# Altium footprint library LEADERTECH_SMS-255F.PcbLib: 1 footprints
Each footprint in its own frame and in the unit in brackets; x right, y up, seen from the top. Pads: shape width x height; smd on the part's side, far side on the other; paste and mask are expansions set on the pad; w line width, h text height; cw(c..) or ccw(c..) is an arc to the next point about the centre after c.
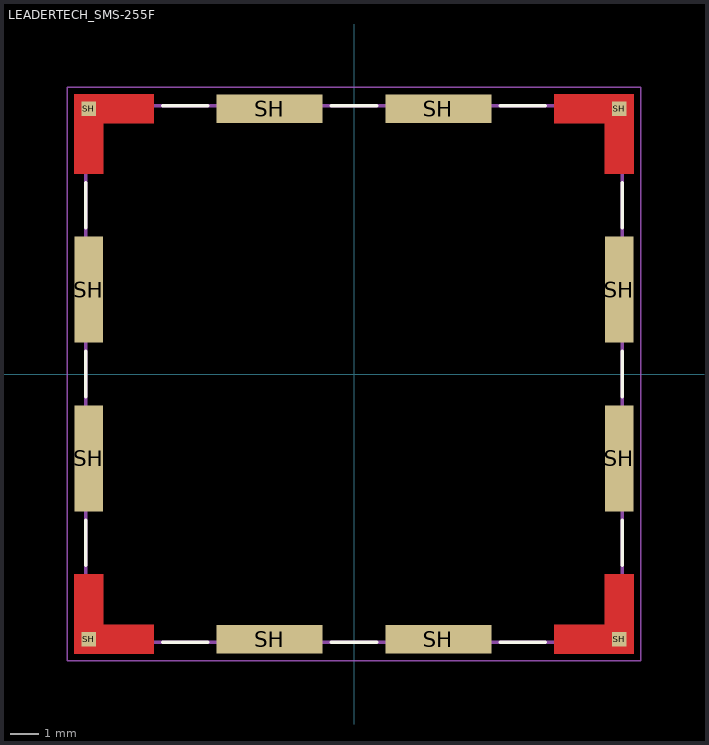
[diagram p0: the footprint, top view; thin cyan lines are the x and y axes]

## LEADERTECH_SMS-255F [mm]
height 5.08
pads (12):
  rect 0.5x0.5 smd paste-1 mask+0: SH(-9.425,-9.425) SH(-9.425,9.425) SH(9.425,-9.425) SH(9.425,9.425)
  rect 1.02x3.76 smd: SH(-9.425,-3) SH(-9.425,3) SH(9.425,-3) SH(9.425,3)
  rect 3.76x1.02 smd: SH(-3,-9.425) SH(-3,9.425) SH(3,-9.425) SH(3,9.425)
Top Layer:
  region: -7.115,8.915 -8.915,8.915 -8.915,7.115 -9.935,7.115 -9.935,9.935 -7.115,9.935
  region: 9.935,7.115 8.915,7.115 8.915,8.915 7.115,8.915 7.115,9.935 9.935,9.935
  region: 9.935,-9.935 7.115,-9.935 7.115,-8.915 8.915,-8.915 8.915,-7.115 9.935,-7.115
  region: -8.915,-8.915 -7.115,-8.915 -7.115,-9.935 -9.935,-9.935 -9.935,-7.115 -8.915,-7.115
Top Overlay:
  lines w0.127: -9.525,-6.795 -9.525,-5.2 ; -9.525,-0.8 -9.525,0.8 ; -9.525,5.2 -9.525,6.795 ; -6.795,-9.525 -5.2,-9.525 ; -6.795,9.525 -5.2,9.525 ; -0.8,-9.525 0.8,-9.525 ; -0.8,9.525 0.8,9.525 ; 5.2,-9.525 6.795,-9.525 ; 5.2,9.525 6.795,9.525 ; 9.525,-6.795 9.525,-5.2 ; 9.525,-0.8 9.525,0.8 ; 9.525,5.2 9.525,6.795
Top Paste:
  region: -7.115,8.915 -8.915,8.915 -8.915,7.115 -9.935,7.115 -9.935,9.935 -7.115,9.935
  region: 9.935,7.115 8.915,7.115 8.915,8.915 7.115,8.915 7.115,9.935 9.935,9.935
  region: 9.935,-9.935 7.115,-9.935 7.115,-8.915 8.915,-8.915 8.915,-7.115 9.935,-7.115
  region: -8.915,-8.915 -7.115,-8.915 -7.115,-9.935 -9.935,-9.935 -9.935,-7.115 -8.915,-7.115
Top Solder:
  region: -7.015,8.815 -8.815,8.815 -8.815,7.015 -10.035,7.015 -10.035,10.035 -7.015,10.035
  region: 10.035,7.015 8.815,7.015 8.815,8.815 7.015,8.815 7.015,10.035 10.035,10.035
  region: 10.035,-10.035 7.015,-10.035 7.015,-8.815 8.815,-8.815 8.815,-7.015 10.035,-7.015
  region: -8.815,-8.815 -7.015,-8.815 -7.015,-10.035 -10.035,-10.035 -10.035,-7.015 -8.815,-7.015
Mechanical 13:
  lines w0.127: -9.525,-9.525 9.525,-9.525 9.525,9.525 -9.525,9.525 -9.525,-9.525
Mechanical 15:
  lines w0.05: -10.185,-10.185 -10.185,10.185 10.185,10.185 10.185,-10.185 -10.185,-10.185
3D body "step_temp.STEP": height 5.08, standoff 0, extent -9.83,-9.83 9.83,9.83